# EAGLE library part GBCART (library gameboy)
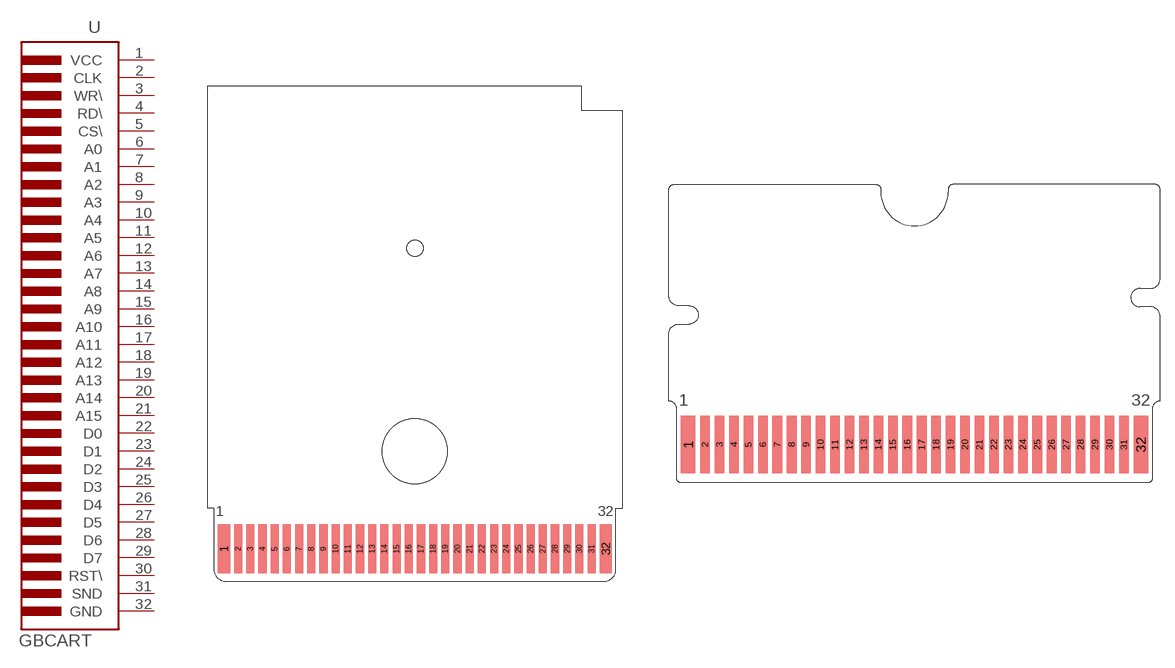
[diagram p0: symbol with the pads of GBCART; footprints GBCART, GBA_CART]

Designator prefix -

## GBCART-FULL  [GBCART]
1  VCC  pwr
2  CLK  out
3  WR\  out
4  RD\  out
5  CS\  out
6  A0  out
7  A1  out
8  A2  out
9  A3  out
10  A4  out
11  A5  out
12  A6  out
13  A7  out
14  A8  out
15  A9  out
16  A10  out
17  A11  out
18  A12  out
19  A13  out
20  A14  out
21  A15  out
22  D0
23  D1
24  D2
25  D3
26  D4
27  D5
28  D6
29  D7
30  RST\
31  SND
32  GND  pwr

## GBCART-PART  [GBA_CART]
Pads as for GBCART

## Footprint GBCART (pad centres in mm)
smd 1.5 x 6: 1 -23.4,-25.21; 32 23.6,-25.21
smd 1 x 6: 2 -21.65,-25.21; 3 -20.15,-25.21; 4 -18.65,-25.21; 5 -17.15,-25.21; 6 -15.65,-25.21; 7 -14.15,-25.21; 8 -12.65,-25.21; 9 -11.15,-25.21; 10 -9.65,-25.21; 11 -8.15,-25.21; 12 -6.65,-25.21; 13 -5.15,-25.21; 14 -3.65,-25.21; 15 -2.15,-25.21; 16 -0.65,-25.21; 17 0.85,-25.21; 18 2.35,-25.21; 19 3.85,-25.21; 20 5.35,-25.21; 21 6.85,-25.21; 22 8.35,-25.21; 23 9.85,-25.21; 24 11.35,-25.21; 25 12.85,-25.21; 26 14.35,-25.21; 27 15.85,-25.21; 28 17.35,-25.21; 29 18.85,-25.21; 30 20.35,-25.21; 31 21.85,-25.21
hole 8 at 0.1,-13.21
hole 2 at 0.1,11.79

## Footprint GBA_CART (pad centres in mm)
smd 1.5 x 6: 1 -23.4,0.19; 32 23.6,0.19
smd 1 x 6: 2 -21.65,0.19; 3 -20.15,0.19; 4 -18.65,0.19; 5 -17.15,0.19; 6 -15.65,0.19; 7 -14.15,0.19; 8 -12.65,0.19; 9 -11.15,0.19; 10 -9.65,0.19; 11 -8.15,0.19; 12 -6.65,0.19; 13 -5.15,0.19; 14 -3.65,0.19; 15 -2.15,0.19; 16 -0.65,0.19; 17 0.85,0.19; 18 2.35,0.19; 19 3.85,0.19; 20 5.35,0.19; 21 6.85,0.19; 22 8.35,0.19; 23 9.85,0.19; 24 11.35,0.19; 25 12.85,0.19; 26 14.35,0.19; 27 15.85,0.19; 28 17.35,0.19; 29 18.85,0.19; 30 20.35,0.19; 31 21.85,0.19